# Altium footprint library DIOB.PcbLib: 1 footprints
Each footprint in its own frame and in the unit in brackets; x right, y up, seen from the top. Pads: shape width x height; smd on the part's side, far side on the other; paste and mask are expansions set on the pad; w line width, h text height; cw(c..) or ccw(c..) is an arc to the next point about the centre after c.
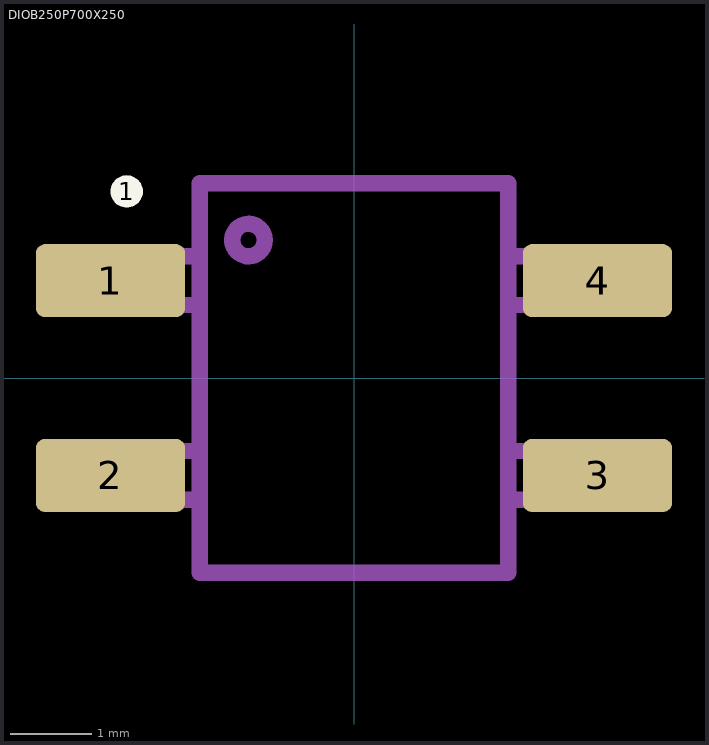
[diagram p0: the footprint, top view; thin cyan lines are the x and y axes]

## DIOB250P700X250 [mm] "MB-S"
height 2.5
pads (5):
  rrect25% 1.84x0.9 smd: 1(-3,1.2) 2(-3,-1.2) 3(3,-1.2) 4(3,1.2)
  round 0.4 on Top Overlay: 1(-2.8,2.3)
Top Assembly:
  circle w0.2: c-1.3,1.7 r0.2
  lines w0.2: -1.925,-0.9 -3.5,-0.9 -3.5,-1.5 -1.9,-1.5 ; -1.925,1.5 -3.5,1.5 -3.5,0.9 -1.9,0.9 ; 1.9,-0.9 3.5,-0.9 3.5,-1.5 1.925,-1.5 ; 1.9,1.5 3.5,1.5 3.5,0.9 1.925,0.9 ; -1.9,-2.4 -1.9,2.4 1.9,2.4 1.9,-2.4 -1.9,-2.4
3D body "DIOB250P700X250_MB-S.stp": height 2.5, standoff 0, extent -3.54,-2.365 3.54,2.365